# Altium footprint library PCB - RF SHIELD - MASACH MS243-10C.PcbLib: 1 footprints
Each footprint in its own frame and in the unit in brackets; x right, y up, seen from the top. Pads: shape width x height; smd on the part's side, far side on the other; paste and mask are expansions set on the pad; w line width, h text height; cw(c..) or ccw(c..) is an arc to the next point about the centre after c.
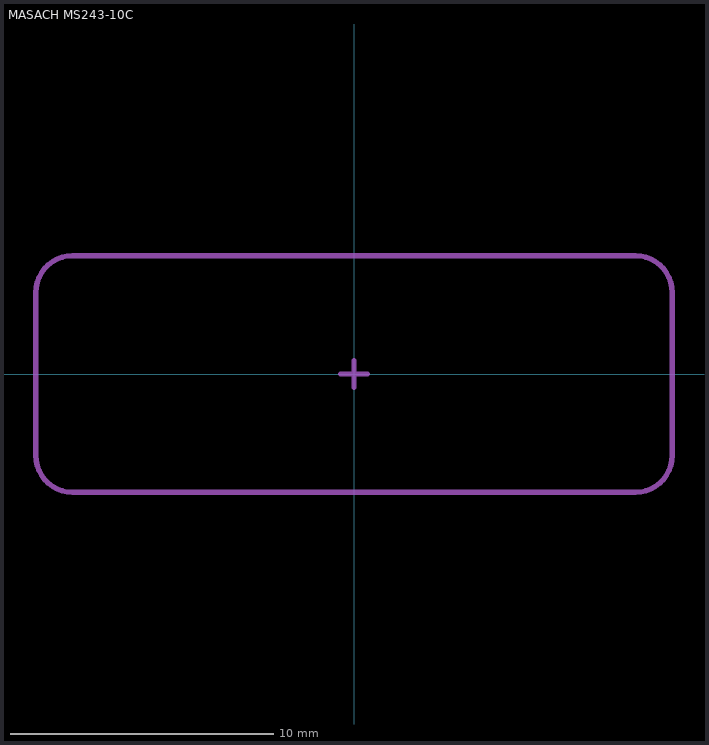
[diagram p0: the footprint, top view; thin cyan lines are the x and y axes]

## MASACH MS243-10C [mm] "24.3 x 8.9 x 3.8mm Two-piece Drawn-Seamless RF Shield / EMI Shield COVER"
height 4
Top Component Outline:
  lines w0.2: -12.1,-3.103 ccw(c-10.703,-3.103) -10.703,-4.5 0,-4.5 10.703,-4.5 ccw(c10.703,-3.103) 12.1,-3.103 12.1,3.103 ccw(c10.703,3.103) 10.703,4.5 -10.703,4.5 ccw(c-10.703,3.103) -12.1,3.103 -12.1,-3.103
Top Courtyard (Mech153):
  lines w0.2: -0.5,0 0.5,0 ; 0,-0.5 0,0.5
3D body "Masach MS243-10C.step": height 4, standoff 1, extent -12.35,-4.65 12.35,4.65